# EAGLE library part ISP_HEADER (library thomas_library)
This is a six-pin ISP header for the ATMega Microcontroller
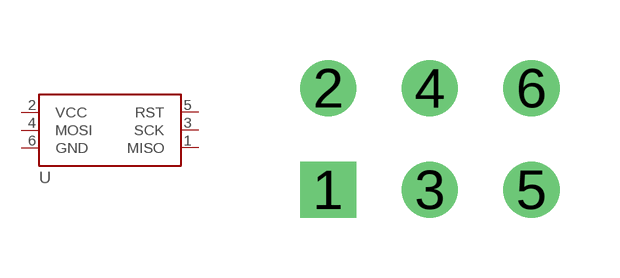
[diagram p9: symbol with the pads of ISP_HEADER; footprint ISP_HEADER]

Designator prefix -

## ISP_HEADER  [ISP_HEADER]
1  MISO
2  VCC
3  SCK
4  MOSI
5  RST
6  GND

## Footprint ISP_HEADER (pad centres in mm)
drill 0.9 square: 1 -2.54,-1.27
drill 0.9: 2 -2.54,1.27; 3 0,-1.27; 4 0,1.27; 5 2.54,-1.27; 6 2.54,1.27